# Altium footprint library ADF4159CCPZ.PcbLib: 3 footprints
Each footprint in its own frame and in the unit in brackets; x right, y up, seen from the top. Pads: shape width x height; smd on the part's side, far side on the other; paste and mask are expansions set on the pad; w line width, h text height; cw(c..) or ccw(c..) is an arc to the next point about the centre after c.
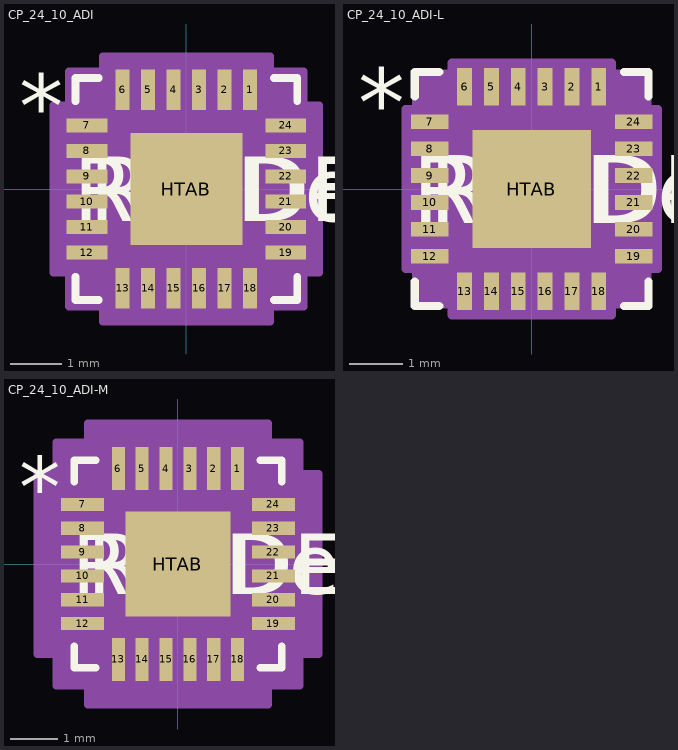
[diagram p0: the footprints below, top view; thin cyan lines are the x and y axes]

## CP_24_10_ADI [mm]
pads (25):
  rect 0.275x0.8 smd paste+0 mask+0: 1(1.25,1.95) 2(0.75,1.95) 3(0.25,1.95) 4(-0.25,1.95) 5(-0.75,1.95) 6(-1.25,1.95) 13(-1.25,-1.95) 14(-0.75,-1.95) 15(-0.25,-1.95) 16(0.25,-1.95) 17(0.75,-1.95) 18(1.25,-1.95)
  rect 0.8x0.275 smd paste+0 mask+0: 7(-1.95,1.25) 8(-1.95,0.75) 9(-1.95,0.25) 10(-1.95,-0.25) 11(-1.95,-0.75) 12(-1.95,-1.25) 19(1.95,-1.25) 20(1.95,-0.75) 21(1.95,-0.25) 22(1.95,0.25) 23(1.95,0.75) 24(1.95,1.25)
  rect 2.2x2.2 smd paste+0 mask+0: HTAB(0,0)
Top Overlay:
  lines w0.152: -2.177,-1.72 -2.177,-2.177 -1.72,-2.177 ; -2.177,1.72 -2.177,2.177 -1.72,2.177 ; 1.72,-2.177 2.177,-2.177 2.177,-1.72 ; 1.72,2.177 2.177,2.177 2.177,1.72
  text "*" at -3.284,0.996 h1.27
  text "RefDes" at -1.905,-0.635 h1.27
  text "REFDES" at -2.222,-0.635 h1.27
Mechanical 13:
  lines w0.025: -2.05,-1.4 -2.05,-1.1 ; -2.05,-1.4 -2.05,-1.1 ; -2.05,-1.4 -2.05,-1.4 ; -2.05,-1.1 -2.05,-1.1 ; -2.05,-0.9 -2.05,-0.6 ; -2.05,-0.9 -2.05,-0.6 ; -2.05,-0.9 -2.05,-0.9 ; -2.05,-0.6 -2.05,-0.6 ; -2.05,-0.4 -2.05,-0.1 ; -2.05,-0.4 -2.05,-0.1 ; -2.05,-0.4 -2.05,-0.4 ; -2.05,-0.1 -2.05,-0.1 ; -2.05,0.1 -2.05,0.4 ; -2.05,0.1 -2.05,0.4 ; -2.05,0.1 -2.05,0.1 ; -2.05,0.4 -2.05,0.4 ; -2.05,0.6 -2.05,0.9 ; -2.05,0.6 -2.05,0.9 ; -2.05,0.6 -2.05,0.6 ; -2.05,0.9 -2.05,0.9 ; -2.05,1.1 -2.05,1.4 ; -2.05,1.1 -2.05,1.4 ; -2.05,1.1 -2.05,1.1 ; -2.05,1.4 -2.05,1.4 ; -1.4,-2.05 -1.1,-2.05 ; -1.4,-2.05 -1.4,-2.05 ; -1.4,-2.05 -1.1,-2.05 ; -1.4,2.05 -1.1,2.05 ; -1.4,2.05 -1.1,2.05 ; -1.4,2.05 -1.4,2.05 ; -1.1,-2.05 -1.1,-2.05 ; -1.1,2.05 -1.1,2.05 ; -0.9,-2.05 -0.6,-2.05 ; -0.9,-2.05 -0.9,-2.05 ; -0.9,-2.05 -0.6,-2.05 ; -0.9,2.05 -0.6,2.05 ; -0.9,2.05 -0.6,2.05 ; -0.9,2.05 -0.9,2.05 ; -0.6,-2.05 -0.6,-2.05 ; -0.6,2.05 -0.6,2.05 ; -0.4,-2.05 -0.1,-2.05 ; -0.4,-2.05 -0.4,-2.05 ; -0.4,-2.05 -0.1,-2.05 ; -0.4,2.05 -0.1,2.05 ; -0.4,2.05 -0.1,2.05 ; -0.4,2.05 -0.4,2.05 ; -0.1,-2.05 -0.1,-2.05 ; -0.1,2.05 -0.1,2.05 ; 0.1,-2.05 0.4,-2.05 ; 0.1,-2.05 0.1,-2.05 ; 0.1,-2.05 0.4,-2.05 ; 0.1,2.05 0.4,2.05 ; 0.1,2.05 0.4,2.05 ; 0.1,2.05 0.1,2.05 ; 0.4,-2.05 0.4,-2.05 ; 0.4,2.05 0.4,2.05 ; 0.6,-2.05 0.9,-2.05 ; 0.6,-2.05 0.6,-2.05 ; 0.6,-2.05 0.9,-2.05 ; 0.6,2.05 0.9,2.05 ; 0.6,2.05 0.9,2.05 ; 0.6,2.05 0.6,2.05 ; 0.9,-2.05 0.9,-2.05 ; 0.9,2.05 0.9,2.05 ; 1.1,-2.05 1.4,-2.05 ; 1.1,-2.05 1.1,-2.05 ; 1.1,-2.05 1.4,-2.05 ; 1.1,2.05 1.4,2.05 ; 1.1,2.05 1.4,2.05 ; 1.1,2.05 1.1,2.05 ; 1.4,-2.05 1.4,-2.05 ; 1.4,2.05 1.4,2.05 ; 2.05,-1.4 2.05,-1.1 ; 2.05,-1.4 2.05,-1.4 ; 2.05,-1.4 2.05,-1.1 ; 2.05,-1.1 2.05,-1.1 ; 2.05,-0.9 2.05,-0.6 ; 2.05,-0.9 2.05,-0.9 ; 2.05,-0.9 2.05,-0.6 ; 2.05,-0.6 2.05,-0.6 ; 2.05,-0.4 2.05,-0.1 ; 2.05,-0.4 2.05,-0.4 ; 2.05,-0.4 2.05,-0.1 ; 2.05,-0.1 2.05,-0.1 ; 2.05,0.1 2.05,0.4 ; 2.05,0.1 2.05,0.1 ; 2.05,0.1 2.05,0.4 ; 2.05,0.4 2.05,0.4 ; 2.05,0.6 2.05,0.9 ; 2.05,0.6 2.05,0.6 ; 2.05,0.6 2.05,0.9 ; 2.05,0.9 2.05,0.9 ; 2.05,1.1 2.05,1.4 ; 2.05,1.1 2.05,1.1 ; 2.05,1.1 2.05,1.4 ; 2.05,1.4 2.05,1.4 ; -2.05,-2.05 2.05,-2.05 2.05,2.05 -2.05,2.05 -2.05,-2.05
  text "*" at -1.855,1.085 h0.64
  text "RefDes2" at -2.222,-0.635 h1.27
Mechanical 15:
  region: -1.642,-2.304 -2.304,-2.304 -2.304,-1.642 -2.604,-1.642 -2.604,1.642 -2.304,1.642 -2.304,2.304 -1.642,2.304 -1.642,2.604 1.642,2.604 1.642,2.304 2.304,2.304 2.304,1.642 2.604,1.642 2.604,-1.642 2.304,-1.642 2.304,-2.304 1.642,-2.304 1.642,-2.604 -1.642,-2.604
  lines w0.152: -2.604,-1.642 -2.304,-1.642 -2.304,-2.304 -1.642,-2.304 -1.642,-2.604 1.642,-2.604 1.642,-2.304 2.304,-2.304 2.304,-1.642 2.604,-1.642 2.604,1.642 2.304,1.642 2.304,2.304 1.642,2.304 1.642,2.604 -1.642,2.604 -1.642,2.304 -2.304,2.304 -2.304,1.642 -2.604,1.642 -2.604,-1.642
3D body "CP_24_10_ADI.step": height 0.6, standoff 0, extent -2.05,-2.05 2.05,2.05

## CP_24_10_ADI-L [mm]
pads (25):
  rect 0.275x0.7 smd paste+0 mask+0: 1(1.25,1.9) 2(0.75,1.9) 3(0.25,1.9) 4(-0.25,1.9) 5(-0.75,1.9) 6(-1.25,1.9) 13(-1.25,-1.9) 14(-0.75,-1.9) 15(-0.25,-1.9) 16(0.25,-1.9) 17(0.75,-1.9) 18(1.25,-1.9)
  rect 0.7x0.275 smd paste+0 mask+0: 7(-1.9,1.25) 8(-1.9,0.75) 9(-1.9,0.25) 10(-1.9,-0.25) 11(-1.9,-0.75) 12(-1.9,-1.25) 19(1.9,-1.25) 20(1.9,-0.75) 21(1.9,-0.25) 22(1.9,0.25) 23(1.9,0.75) 24(1.9,1.25)
  rect 2.2x2.2 smd paste+0 mask+0: HTAB(0,0)
Top Overlay:
  lines w0.152: -2.177,-1.72 -2.177,-2.177 -1.72,-2.177 ; -2.177,1.72 -2.177,2.177 -1.72,2.177 ; 1.72,-2.177 2.177,-2.177 2.177,-1.72 ; 1.72,2.177 2.177,2.177 2.177,1.72
  text "*" at -3.233,0.996 h1.27
  text "RefDes" at -1.905,-0.635 h1.27
  text "REFDES" at -2.222,-0.635 h1.27
Mechanical 13:
  lines w0.025: -2.05,-1.4 -2.05,-1.1 ; -2.05,-1.4 -2.05,-1.1 ; -2.05,-1.4 -2.05,-1.4 ; -2.05,-1.1 -2.05,-1.1 ; -2.05,-0.9 -2.05,-0.6 ; -2.05,-0.9 -2.05,-0.6 ; -2.05,-0.9 -2.05,-0.9 ; -2.05,-0.6 -2.05,-0.6 ; -2.05,-0.4 -2.05,-0.1 ; -2.05,-0.4 -2.05,-0.1 ; -2.05,-0.4 -2.05,-0.4 ; -2.05,-0.1 -2.05,-0.1 ; -2.05,0.1 -2.05,0.4 ; -2.05,0.1 -2.05,0.4 ; -2.05,0.1 -2.05,0.1 ; -2.05,0.4 -2.05,0.4 ; -2.05,0.6 -2.05,0.9 ; -2.05,0.6 -2.05,0.9 ; -2.05,0.6 -2.05,0.6 ; -2.05,0.9 -2.05,0.9 ; -2.05,1.1 -2.05,1.4 ; -2.05,1.1 -2.05,1.4 ; -2.05,1.1 -2.05,1.1 ; -2.05,1.4 -2.05,1.4 ; -1.4,-2.05 -1.1,-2.05 ; -1.4,-2.05 -1.4,-2.05 ; -1.4,-2.05 -1.1,-2.05 ; -1.4,2.05 -1.1,2.05 ; -1.4,2.05 -1.1,2.05 ; -1.4,2.05 -1.4,2.05 ; -1.1,-2.05 -1.1,-2.05 ; -1.1,2.05 -1.1,2.05 ; -0.9,-2.05 -0.6,-2.05 ; -0.9,-2.05 -0.9,-2.05 ; -0.9,-2.05 -0.6,-2.05 ; -0.9,2.05 -0.6,2.05 ; -0.9,2.05 -0.6,2.05 ; -0.9,2.05 -0.9,2.05 ; -0.6,-2.05 -0.6,-2.05 ; -0.6,2.05 -0.6,2.05 ; -0.4,-2.05 -0.1,-2.05 ; -0.4,-2.05 -0.4,-2.05 ; -0.4,-2.05 -0.1,-2.05 ; -0.4,2.05 -0.1,2.05 ; -0.4,2.05 -0.1,2.05 ; -0.4,2.05 -0.4,2.05 ; -0.1,-2.05 -0.1,-2.05 ; -0.1,2.05 -0.1,2.05 ; 0.1,-2.05 0.4,-2.05 ; 0.1,-2.05 0.1,-2.05 ; 0.1,-2.05 0.4,-2.05 ; 0.1,2.05 0.4,2.05 ; 0.1,2.05 0.4,2.05 ; 0.1,2.05 0.1,2.05 ; 0.4,-2.05 0.4,-2.05 ; 0.4,2.05 0.4,2.05 ; 0.6,-2.05 0.9,-2.05 ; 0.6,-2.05 0.6,-2.05 ; 0.6,-2.05 0.9,-2.05 ; 0.6,2.05 0.9,2.05 ; 0.6,2.05 0.9,2.05 ; 0.6,2.05 0.6,2.05 ; 0.9,-2.05 0.9,-2.05 ; 0.9,2.05 0.9,2.05 ; 1.1,-2.05 1.4,-2.05 ; 1.1,-2.05 1.1,-2.05 ; 1.1,-2.05 1.4,-2.05 ; 1.1,2.05 1.4,2.05 ; 1.1,2.05 1.4,2.05 ; 1.1,2.05 1.1,2.05 ; 1.4,-2.05 1.4,-2.05 ; 1.4,2.05 1.4,2.05 ; 2.05,-1.4 2.05,-1.1 ; 2.05,-1.4 2.05,-1.4 ; 2.05,-1.4 2.05,-1.1 ; 2.05,-1.1 2.05,-1.1 ; 2.05,-0.9 2.05,-0.6 ; 2.05,-0.9 2.05,-0.9 ; 2.05,-0.9 2.05,-0.6 ; 2.05,-0.6 2.05,-0.6 ; 2.05,-0.4 2.05,-0.1 ; 2.05,-0.4 2.05,-0.4 ; 2.05,-0.4 2.05,-0.1 ; 2.05,-0.1 2.05,-0.1 ; 2.05,0.1 2.05,0.4 ; 2.05,0.1 2.05,0.1 ; 2.05,0.1 2.05,0.4 ; 2.05,0.4 2.05,0.4 ; 2.05,0.6 2.05,0.9 ; 2.05,0.6 2.05,0.6 ; 2.05,0.6 2.05,0.9 ; 2.05,0.9 2.05,0.9 ; 2.05,1.1 2.05,1.4 ; 2.05,1.1 2.05,1.1 ; 2.05,1.1 2.05,1.4 ; 2.05,1.4 2.05,1.4 ; -2.05,-2.05 2.05,-2.05 2.05,2.05 -2.05,2.05 -2.05,-2.05
  text "*" at -1.805,1.085 h0.64
  text "RefDes2" at -2.222,-0.635 h1.27
Mechanical 15:
  region: -1.489,-2.152 -2.152,-2.152 -2.152,-1.489 -2.352,-1.489 -2.352,1.489 -2.152,1.489 -2.152,2.152 -1.489,2.152 -1.489,2.352 1.489,2.352 1.489,2.152 2.152,2.152 2.152,1.489 2.352,1.489 2.352,-1.489 2.152,-1.489 2.152,-2.152 1.489,-2.152 1.489,-2.352 -1.489,-2.352
  lines w0.152: -2.352,-1.489 -2.152,-1.489 -2.152,-2.152 -1.489,-2.152 -1.489,-2.352 1.489,-2.352 1.489,-2.152 2.152,-2.152 2.152,-1.489 2.352,-1.489 2.352,1.489 2.152,1.489 2.152,2.152 1.489,2.152 1.489,2.352 -1.489,2.352 -1.489,2.152 -2.152,2.152 -2.152,1.489 -2.352,1.489 -2.352,-1.489
3D body "CP_24_10_ADI.step": height 0.6, standoff 0, extent -2.05,-2.05 2.05,2.05

## CP_24_10_ADI-M [mm]
pads (25):
  rect 0.275x0.9 smd paste+0 mask+0: 1(1.25,2) 2(0.75,2) 3(0.25,2) 4(-0.25,2) 5(-0.75,2) 6(-1.25,2) 13(-1.25,-2) 14(-0.75,-2) 15(-0.25,-2) 16(0.25,-2) 17(0.75,-2) 18(1.25,-2)
  rect 0.9x0.275 smd paste+0 mask+0: 7(-2,1.25) 8(-2,0.75) 9(-2,0.25) 10(-2,-0.25) 11(-2,-0.75) 12(-2,-1.25) 19(2,-1.25) 20(2,-0.75) 21(2,-0.25) 22(2,0.25) 23(2,0.75) 24(2,1.25)
  rect 2.2x2.2 smd paste+0 mask+0: HTAB(0,0)
Top Overlay:
  lines w0.152: -2.177,-1.72 -2.177,-2.177 -1.72,-2.177 ; -2.177,1.72 -2.177,2.177 -1.72,2.177 ; 1.72,-2.177 2.177,-2.177 2.177,-1.72 ; 1.72,2.177 2.177,2.177 2.177,1.72
  text "*" at -3.334,0.996 h1.27
  text "RefDes" at -1.905,-0.635 h1.27
  text "REFDES" at -2.222,-0.635 h1.27
Mechanical 13:
  lines w0.025: -2.05,-1.4 -2.05,-1.1 ; -2.05,-1.4 -2.05,-1.1 ; -2.05,-1.4 -2.05,-1.4 ; -2.05,-1.1 -2.05,-1.1 ; -2.05,-0.9 -2.05,-0.6 ; -2.05,-0.9 -2.05,-0.6 ; -2.05,-0.9 -2.05,-0.9 ; -2.05,-0.6 -2.05,-0.6 ; -2.05,-0.4 -2.05,-0.1 ; -2.05,-0.4 -2.05,-0.1 ; -2.05,-0.4 -2.05,-0.4 ; -2.05,-0.1 -2.05,-0.1 ; -2.05,0.1 -2.05,0.4 ; -2.05,0.1 -2.05,0.4 ; -2.05,0.1 -2.05,0.1 ; -2.05,0.4 -2.05,0.4 ; -2.05,0.6 -2.05,0.9 ; -2.05,0.6 -2.05,0.9 ; -2.05,0.6 -2.05,0.6 ; -2.05,0.9 -2.05,0.9 ; -2.05,1.1 -2.05,1.4 ; -2.05,1.1 -2.05,1.4 ; -2.05,1.1 -2.05,1.1 ; -2.05,1.4 -2.05,1.4 ; -1.4,-2.05 -1.1,-2.05 ; -1.4,-2.05 -1.4,-2.05 ; -1.4,-2.05 -1.1,-2.05 ; -1.4,2.05 -1.1,2.05 ; -1.4,2.05 -1.1,2.05 ; -1.4,2.05 -1.4,2.05 ; -1.1,-2.05 -1.1,-2.05 ; -1.1,2.05 -1.1,2.05 ; -0.9,-2.05 -0.6,-2.05 ; -0.9,-2.05 -0.9,-2.05 ; -0.9,-2.05 -0.6,-2.05 ; -0.9,2.05 -0.6,2.05 ; -0.9,2.05 -0.6,2.05 ; -0.9,2.05 -0.9,2.05 ; -0.6,-2.05 -0.6,-2.05 ; -0.6,2.05 -0.6,2.05 ; -0.4,-2.05 -0.1,-2.05 ; -0.4,-2.05 -0.4,-2.05 ; -0.4,-2.05 -0.1,-2.05 ; -0.4,2.05 -0.1,2.05 ; -0.4,2.05 -0.1,2.05 ; -0.4,2.05 -0.4,2.05 ; -0.1,-2.05 -0.1,-2.05 ; -0.1,2.05 -0.1,2.05 ; 0.1,-2.05 0.4,-2.05 ; 0.1,-2.05 0.1,-2.05 ; 0.1,-2.05 0.4,-2.05 ; 0.1,2.05 0.4,2.05 ; 0.1,2.05 0.4,2.05 ; 0.1,2.05 0.1,2.05 ; 0.4,-2.05 0.4,-2.05 ; 0.4,2.05 0.4,2.05 ; 0.6,-2.05 0.9,-2.05 ; 0.6,-2.05 0.6,-2.05 ; 0.6,-2.05 0.9,-2.05 ; 0.6,2.05 0.9,2.05 ; 0.6,2.05 0.9,2.05 ; 0.6,2.05 0.6,2.05 ; 0.9,-2.05 0.9,-2.05 ; 0.9,2.05 0.9,2.05 ; 1.1,-2.05 1.4,-2.05 ; 1.1,-2.05 1.1,-2.05 ; 1.1,-2.05 1.4,-2.05 ; 1.1,2.05 1.4,2.05 ; 1.1,2.05 1.4,2.05 ; 1.1,2.05 1.1,2.05 ; 1.4,-2.05 1.4,-2.05 ; 1.4,2.05 1.4,2.05 ; 2.05,-1.4 2.05,-1.1 ; 2.05,-1.4 2.05,-1.4 ; 2.05,-1.4 2.05,-1.1 ; 2.05,-1.1 2.05,-1.1 ; 2.05,-0.9 2.05,-0.6 ; 2.05,-0.9 2.05,-0.9 ; 2.05,-0.9 2.05,-0.6 ; 2.05,-0.6 2.05,-0.6 ; 2.05,-0.4 2.05,-0.1 ; 2.05,-0.4 2.05,-0.4 ; 2.05,-0.4 2.05,-0.1 ; 2.05,-0.1 2.05,-0.1 ; 2.05,0.1 2.05,0.4 ; 2.05,0.1 2.05,0.1 ; 2.05,0.1 2.05,0.4 ; 2.05,0.4 2.05,0.4 ; 2.05,0.6 2.05,0.9 ; 2.05,0.6 2.05,0.6 ; 2.05,0.6 2.05,0.9 ; 2.05,0.9 2.05,0.9 ; 2.05,1.1 2.05,1.4 ; 2.05,1.1 2.05,1.1 ; 2.05,1.1 2.05,1.4 ; 2.05,1.4 2.05,1.4 ; -2.05,-2.05 2.05,-2.05 2.05,2.05 -2.05,2.05 -2.05,-2.05
  text "*" at -1.905,1.085 h0.64
  text "RefDes2" at -2.222,-0.635 h1.27
Mechanical 15:
  region: -1.896,-2.558 -2.558,-2.558 -2.558,-1.896 -2.958,-1.896 -2.958,1.896 -2.558,1.896 -2.558,2.558 -1.896,2.558 -1.896,2.958 1.896,2.958 1.896,2.558 2.558,2.558 2.558,1.896 2.958,1.896 2.958,-1.896 2.558,-1.896 2.558,-2.558 1.896,-2.558 1.896,-2.958 -1.896,-2.958
  lines w0.152: -2.958,-1.896 -2.558,-1.896 -2.558,-2.558 -1.896,-2.558 -1.896,-2.958 1.896,-2.958 1.896,-2.558 2.558,-2.558 2.558,-1.896 2.958,-1.896 2.958,1.896 2.558,1.896 2.558,2.558 1.896,2.558 1.896,2.958 -1.896,2.958 -1.896,2.558 -2.558,2.558 -2.558,1.896 -2.958,1.896 -2.958,-1.896
3D body "CP_24_10_ADI.step": height 0.6, standoff 0, extent -2.05,-2.05 2.05,2.05